# EAGLE library part SPI_CONNECTOR (library growbot)
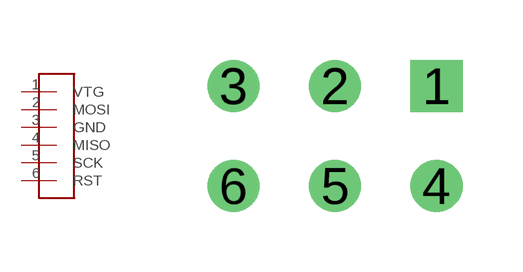
[diagram p1: symbol with the pads of SPI_CONECTOR; footprint SPI_CONECTOR]

Designator prefix -

## SPI_CONNECTOR6PIN  [SPI_CONECTOR]
1  VTG
2  MOSI
3  GND
4  MISO
5  SCK
6  RST

## Footprint SPI_CONECTOR (pad centres in mm)
drill 0.8 square: 1 2.54,1.25
drill 0.8: 2 0,1.25; 3 -2.54,1.25; 4 2.54,-1.25; 5 0,-1.25; 6 -2.54,-1.25